# EAGLE library part MPRLS0025PA00001A (library MPRLS0025PA00001A)
Pressure Sensor 0psi to 25psi Absolute 12-Pin T/R
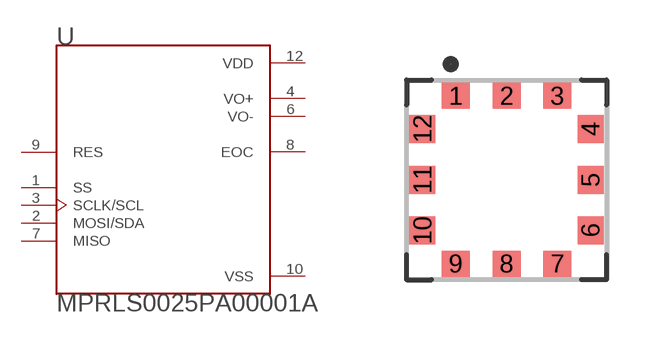
[diagram p0: symbol with the pads of XDCR_MPRLS0025PA00001A; footprint XDCR_MPRLS0025PA00001A]

Designator prefix U

## MPRLS0025PA00001A (Availability: Unavailable; Description: Pressure Sensor 0psi to 25psi Absolute 12-Pin T/R; MF: Honeywell Sensing; MP: MPRLS0025PA00001A; Package: SMD-10 Honeywell; Price: None)  [XDCR_MPRLS0025PA00001A]
1  SS  in
2  MOSI/SDA
3  SCLK/SCL  in
4  VO+  out
6  VO-  out
7  MISO  out
8  EOC  out
9  RES  in
10  VSS  pwr
12  VDD  pwr

## Footprint XDCR_MPRLS0025PA00001A (pad centres in mm)
smd 0.7 x 0.65: 1 -1.27,2.1; 2 0,2.1; 3 1.27,2.1; 7 1.27,-2.1; 8 0,-2.1; 9 -1.27,-2.1
smd 0.65 x 0.7: 4 2.1,1.27; 5 2.1,0; 6 2.1,-1.27; 10 -2.1,-1.27; 11 -2.1,0; 12 -2.1,1.27